# EAGLE library part LTC4002ES8 (library FUCK)
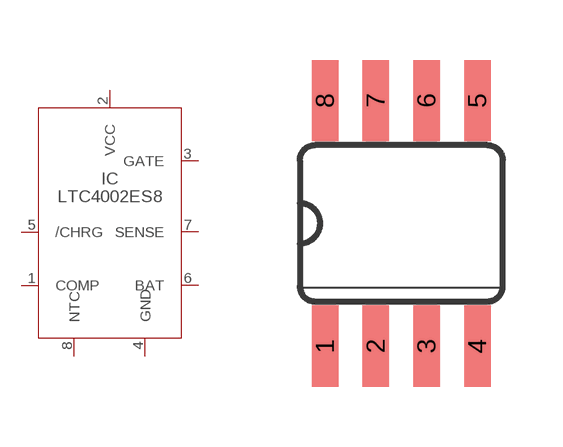
[diagram p1: symbol with the pads of SOIC-8; footprint SOIC-8]

Designator prefix IC

## LTC4002ES8  [SOIC-8]
1  COMP
2  VCC
3  GATE
4  GND
5  /CHRG
6  BAT
7  SENSE
8  NTC

## Footprint SOIC-8 (pad centres in mm)
Small Outline package 8 150 mil
smd 0.66 x 2.032: 1 -1.905,-3.073; 2 -0.635,-3.073; 3 0.635,-3.073; 4 1.905,-3.073; 5 1.905,3.073; 6 0.635,3.073; 7 -0.635,3.073; 8 -1.905,3.073